# EAGLE library part TMUX1309APWR (library SamacSys_Parts)
Multiplexer Switch ICs 5V bidirectional 4: 1 2-channel multipl Source: Datasheet <https://www.ti.com/lit/ds/symlink/tmux1309a.pdf?ts=1744894067176&ref_url=https%3A%2F%2Fwww.mouser.be%2F>
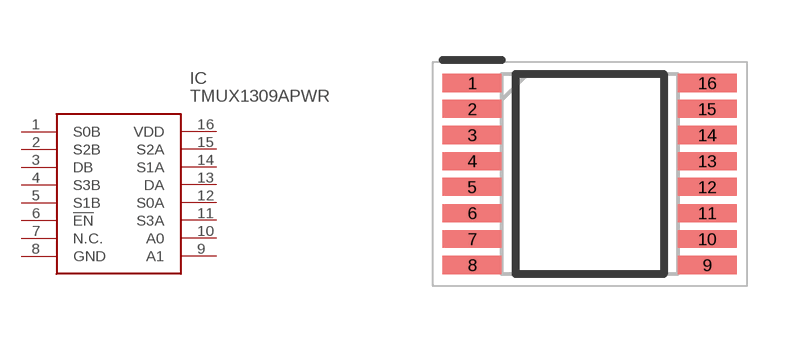
[diagram p3: symbol with the pads of SOP65P640X120-16N; footprint SOP65P640X120-16N]

Designator prefix IC

## TMUX1309APWR (Description: Multiplexer Switch ICs 5V bidirectional 4: 1 2-channel multipl; Height: 1.2mm; Manufacturer_Name: Texas Instruments; Manufacturer_Part_Number: TMUX1309APWR; Mouser_Part_Number: 595-TMUX1309APWR; Mouser_Price-Stock: https://www.mouser.co.uk/ProductDetail/Texas-Instruments/TMUX1309APWR?qs=IKkN%2F947nfBMZtIbZowVgg%3D%3D)  [SOP65P640X120-16N]
1  S0B
2  S2B
3  DB
4  S3B
5  S1B
6  !EN
7  N.C.  nc
8  GND
9  A1
10  A0
11  S3A
12  S0A
13  DA
14  S1A
15  S2A
16  VDD

## Footprint SOP65P640X120-16N (pad centres in mm)
PW0016A
smd 1.475 x 0.45: 1 -2.938,2.275; 2 -2.938,1.625; 3 -2.938,0.975; 4 -2.938,0.325; 5 -2.938,-0.325; 6 -2.938,-0.975; 7 -2.938,-1.625; 8 -2.938,-2.275; 9 2.938,-2.275; 10 2.938,-1.625; 11 2.938,-0.975; 12 2.938,-0.325; 13 2.938,0.325; 14 2.938,0.975; 15 2.938,1.625; 16 2.938,2.275